# Altium footprint library robot-cortex.PcbLib: 38 footprints (part 3 of 3)
Each footprint in its own frame and in the unit in brackets; x right, y up, seen from the top. Pads: shape width x height; smd on the part's side, far side on the other; paste and mask are expansions set on the pad; w line width, h text height; cw(c..) or ccw(c..) is an arc to the next point about the centre after c.
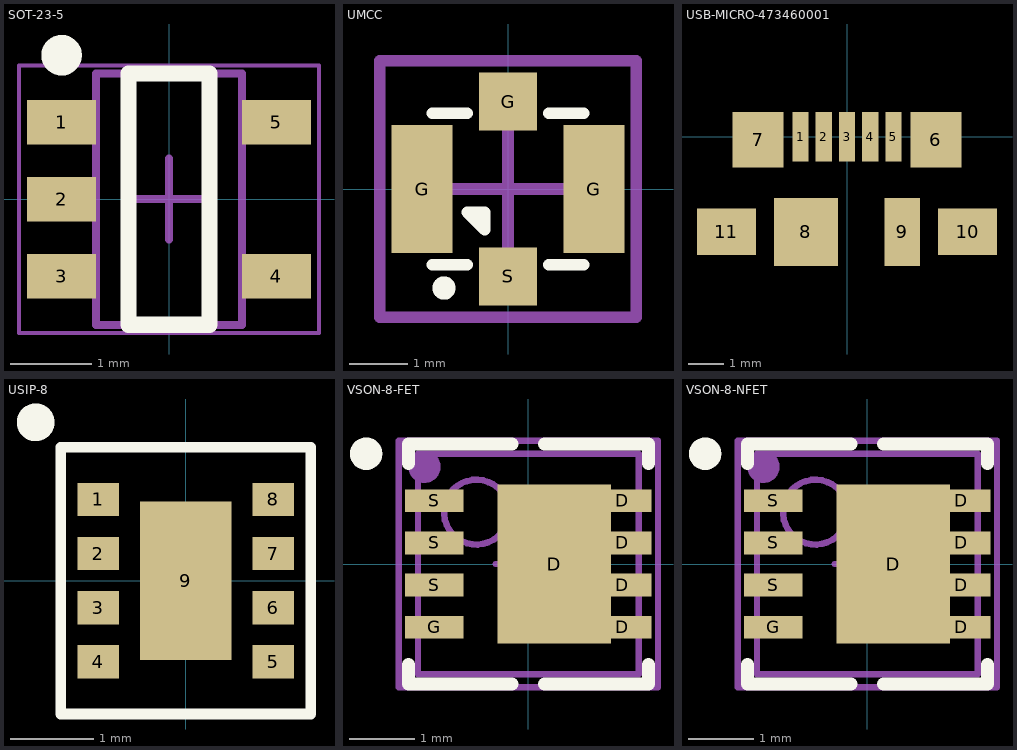
[diagram p2: the footprints below, top view; thin cyan lines are the x and y axes]

## SOT-23-5 [mm] "SOT23, 5-Leads, Body 2.90x2.70mm, Pitch 0.95mm, IPC High Density"
height 1.45
pads (5):
  rect 0.85x0.55 smd: 1(-1.325,0.95) 2(-1.325,0) 3(-1.325,-0.95) 4(1.325,-0.95) 5(1.325,0.95)
Top Overlay:
  circle w0.25: c-1.325,1.775 r0.125
  lines w0.2: -0.5,-1.55 0.5,-1.55 0.5,1.55 -0.5,1.55 -0.5,-1.55
Mechanical 13:
  lines w0.1: -0.9,-1.55 -0.9,1.55 0.9,1.55 0.9,-1.55 -0.9,-1.55
Mechanical 15:
  lines w0.05: -1.85,-1.65 -1.85,1.65 1.85,1.65 1.85,-1.65 -1.85,-1.65
  lines w0.1: -0.5,0 0.5,0 ; 0,-0.5 0,0.5
3D body "SOT95P270X145-5L.step": height 1.45, standoff 0, extent -1.7,-1.55 1.7,1.55

## UMCC [mm]
pads (4):
  rect 1.05x2.2 smd: G(-1.475,0) G(1.475,0)
  rect 1x1 smd: G(0,1.5) S(0,-1.5)
Top Overlay:
  circle w0.2: c-1.1,-1.7 r0.1
  lines w0.2: -1.3,-1.3 -0.7,-1.3 ; -1.3,1.3 -0.7,1.3 ; 0.7,-1.3 1.3,-1.3 ; 0.7,1.3 1.3,1.3 ; -0.7,-0.4 -0.4,-0.4 -0.4,-0.7 -0.7,-0.4
Mechanical 12:
  lines w0.2: -1,0 1,0 ; 0,-1 0,1 ; -2.2,-2.2 -2.2,2.2 2.2,2.2 2.2,-2.2 -2.2,-2.2
Mechanical 15:
  lines w0.2: -2.2,-2.2 -2.2,2.2 2.2,2.2 2.2,-2.2 -2.2,-2.2
  text ".Designator" at -1.9,-1.9 h0.76
3D body "Molex 734120110.STEP": height 1.3, standoff 0, extent -1.5,-1.54 1.5,1.54

## USB-MICRO-473460001 [mm]
pads (11):
  rect 0.45x1.38 smd: 1(-1.3,0) 2(-0.65,0) 3(0,0) 4(0.65,0) 5(1.3,0)
  rect 1.425x1.55 smd: 6(2.488,-0.085) 7(-2.488,-0.085)
  rect 1.8x1.9 smd: 8(-1.15,-2.66)
  rect 1x1.9 smd: 9(1.55,-2.66)
  rect 1.65x1.3 smd: 10(3.375,-2.66) 11(-3.375,-2.66)
3D body "473460001.stp": height 2.68, standoff -0.26, extent -3.99,-5.18 3.99,0.25

## USIP-8 [mm]
pads (9):
  rect 0.5x0.4 smd: 1(-1.05,0.975) 2(-1.05,0.325) 3(-1.05,-0.325) 4(-1.05,-0.975) 5(1.05,-0.975) 6(1.05,-0.325) 7(1.05,0.325) 8(1.05,0.975)
  rect 1.1x1.9 smd: 9(0,0)
Top Overlay:
  circle w0.254: c-1.8,1.9 r0.1
  lines w0.127: -1.5,-1.6 -1.5,1.6 1.5,1.6 1.5,-1.6 -1.5,-1.6
3D body "INDC2520X10N.step": height 1.5, standoff 0.5, extent -1,-1.25 1,1.25
3D body: height 0.5, standoff 0, extent -1.4,-1.5 1.4,1.5
3D body: height 0.51, standoff 0.5, extent -1.4,1.3 -1.1,1.5

## VSON-8-FET [mm] "QFN, 8-Leads, Body 3.30x3.30mm, Pitch 0.65mm, IPC High Density"
height 1.1
pads (9):
  rect 1.75x2.45 smd: D(0.4,0)
  rect 0.9x0.35 smd: D(1.45,-0.975) D(1.45,-0.325) D(1.45,0.325) D(1.45,0.975) G(-1.45,-0.975) S(-1.45,-0.325) S(-1.45,0.325) S(-1.45,0.975)
Top Overlay:
  circle w0.25: c-2.5,1.7 r0.125
  lines w0.2: -1.85,-1.55 -1.85,-1.85 -0.25,-1.85 ; -1.85,1.55 -1.85,1.85 -0.25,1.85 ; 0.25,-1.85 1.85,-1.85 1.85,-1.55 ; 0.25,1.85 1.85,1.85 1.85,1.55
Mechanical 12:
  lines w0.1: -0.5,0 0.5,0 ; 0,-0.5 0,0.5 ; -2,-1.9 2,-1.9 2,1.9 -2,1.9 -2,-1.9
Mechanical 13:
  circle w0.1: c-0.8,0.8 r0.5
  lines w0.1: -1.7,-1.7 -1.7,1.7 1.7,1.7 1.7,-1.7 -1.7,-1.7
Mechanical 15:
  circle w0.25: c-1.6,1.5 r0.125
  lines w0.1: -2,-1.9 -2,1.9 2,1.9 2,-1.9 -2,-1.9
  text ".Designator" at -1.7,-1.6 h1
3D body "QFN65P330X330X110-8L.step": height 1.1, standoff 0, extent -1.75,-1.7 1.75,1.7

## VSON-8-NFET [mm] "QFN, 8-Leads, Body 3.30x3.30mm, Pitch 0.65mm, IPC High Density"
height 1.1
pads (9):
  rect 1.75x2.45 smd: D(0.4,0)
  rect 0.9x0.35 smd: D(1.45,-0.975) D(1.45,-0.325) D(1.45,0.325) D(1.45,0.975) G(-1.45,-0.975) S(-1.45,-0.325) S(-1.45,0.325) S(-1.45,0.975)
Top Overlay:
  circle w0.25: c-2.5,1.7 r0.125
  lines w0.2: -1.85,-1.55 -1.85,-1.85 -0.25,-1.85 ; -1.85,1.55 -1.85,1.85 -0.25,1.85 ; 0.25,-1.85 1.85,-1.85 1.85,-1.55 ; 0.25,1.85 1.85,1.85 1.85,1.55
Mechanical 12:
  lines w0.1: -0.5,0 0.5,0 ; 0,-0.5 0,0.5 ; -2,-1.9 -2,1.9 2,1.9 2,-1.9 -2,-1.9
Mechanical 13:
  circle w0.1: c-0.8,0.8 r0.5
  lines w0.1: -1.7,-1.7 1.7,-1.7 1.7,1.7 -1.7,1.7 -1.7,-1.7
Mechanical 15:
  circle w0.25: c-1.6,1.5 r0.125
  lines w0.1: -2,-1.9 2,-1.9 2,1.9 -2,1.9 -2,-1.9
  text ".Designator" at -1.7,-1.6 h1
3D body "QFN65P330X330X110-8L.step": height 1.1, standoff 0, extent -1.75,-1.7 1.75,1.7